# EAGLE library part MCP1252 (library microchip-dspic)
Positive-Regulated Charge Pump (3.3x5.0)
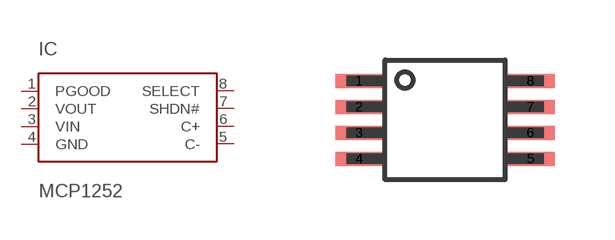
[diagram p7: symbol with the pads of MSOP8; footprint MSOP8]

Designator prefix IC

## MCP1252  [MSOP8]
1  PGOOD  oc
2  VOUT  sup
3  VIN  pwr
4  GND  pwr
5  C-  pas
6  C+  pas
7  SHDN#  in
8  SELECT  in

## Footprint MSOP8 (pad centres in mm)
Micro Small Outline Package
smd 1.2 x 0.35: 1 -2.145,0.975; 2 -2.145,0.325; 3 -2.145,-0.325; 4 -2.145,-0.975; 5 2.145,-0.975; 6 2.145,-0.325; 7 2.145,0.325; 8 2.145,0.975